# Altium footprint library MPPT_PCB_Library.PcbLib: 25 footprints (part 1 of 2)
Each footprint in its own frame and in the unit in brackets; x right, y up, seen from the top. Pads: shape width x height; smd on the part's side, far side on the other; paste and mask are expansions set on the pad; w line width, h text height; cw(c..) or ccw(c..) is an arc to the next point about the centre after c.
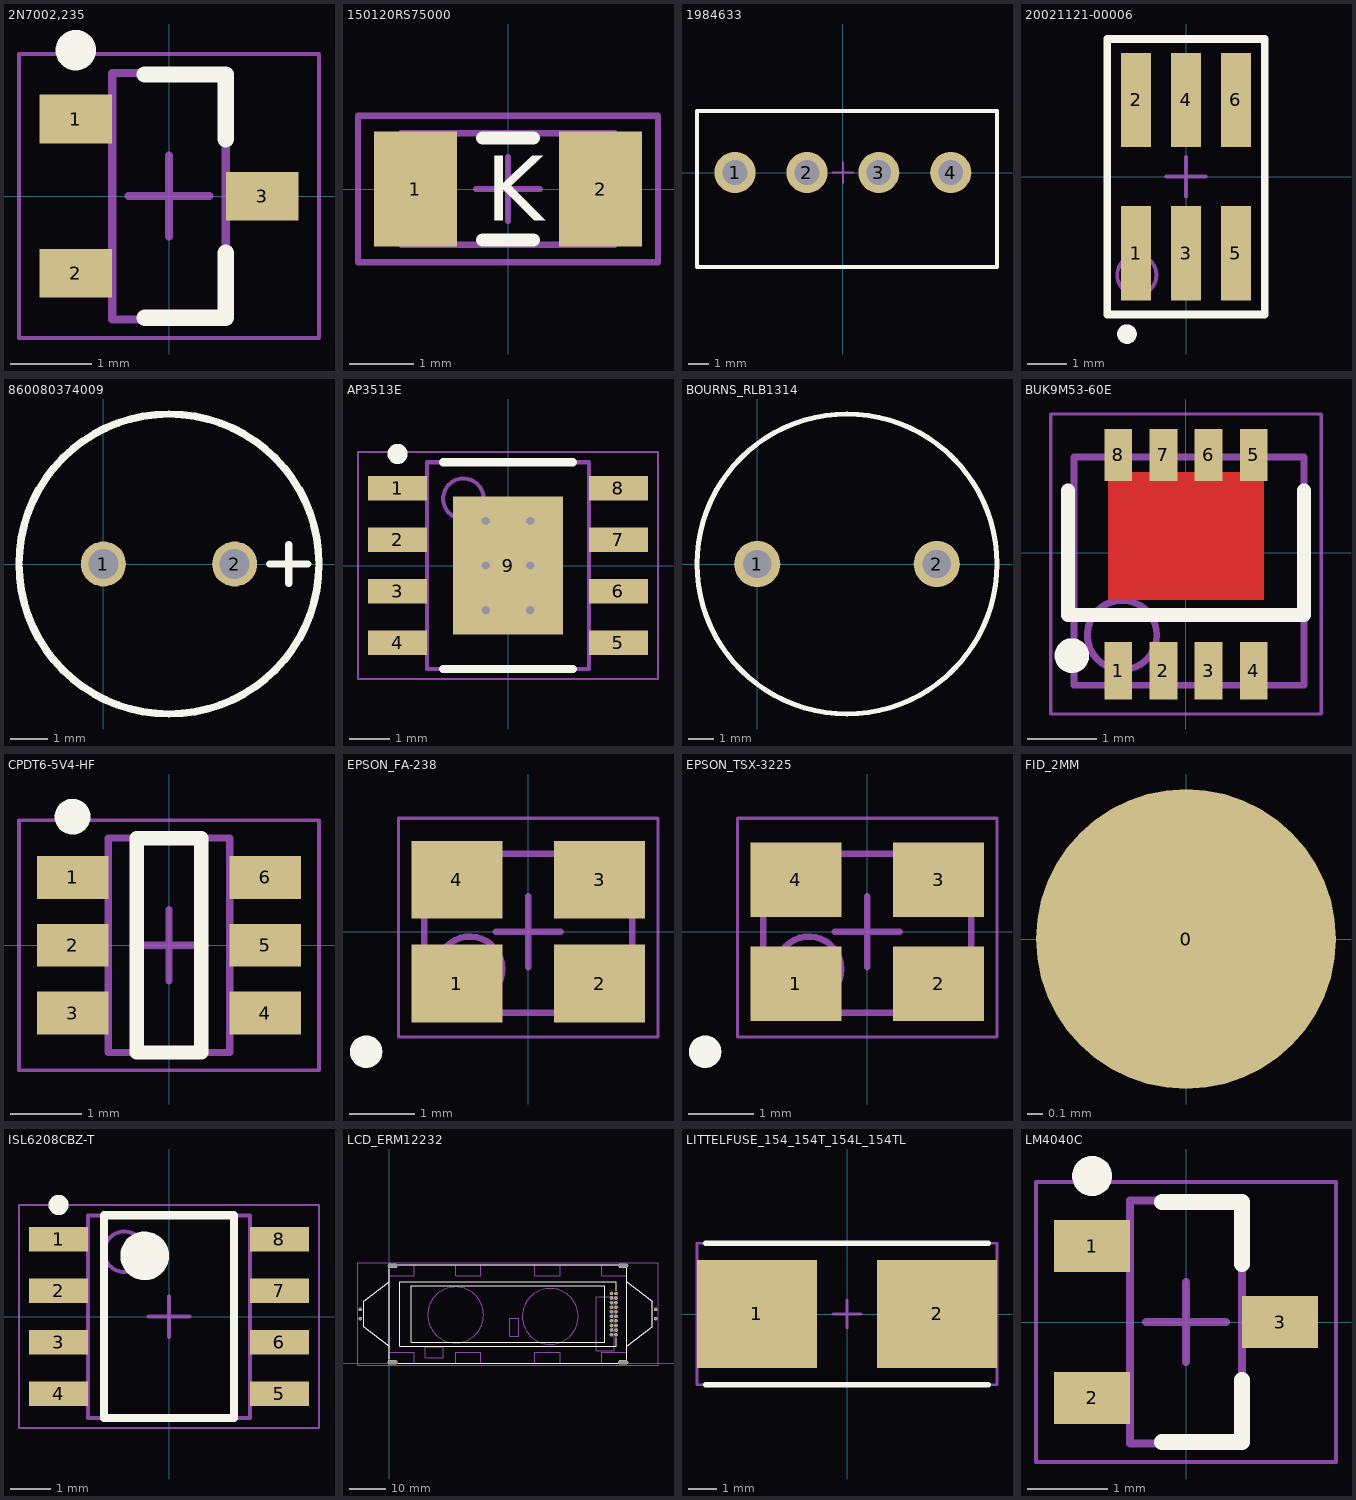
[diagram p0: the footprints below, top view; thin cyan lines are the x and y axes]

## 2N7002,235 [mm] "SOT-23"
height 1.15
pads (3):
  rect 0.9x0.6 smd: 1(-1.15,0.95) 2(-1.15,-0.95) 3(1.15,0)
Top Overlay:
  circle w0.25: c-1.15,1.8 r0.125
  lines w0.2: -0.3,-1.5 0.7,-1.5 0.7,-0.7 ; -0.3,1.5 0.7,1.5 0.7,0.7
Mechanical 13:
  lines w0.1: -0.7,-1.52 -0.7,1.52 0.7,1.52 0.7,-1.52 -0.7,-1.52
Mechanical 15:
  lines w0.05: -1.85,-1.75 -1.85,1.75 1.85,1.75 1.85,-1.75 -1.85,-1.75
  lines w0.1: -0.5,0 0.5,0 ; 0,-0.5 0,0.5
3D body "2N7002,235.step": height 1.15, standoff 0, extent -1.3,-1.52 1.3,1.52

## 150120RS75000 [mm] "LED 1206 Package"
height 1.1
pads (2):
  rect 1.3x1.8 smd: 1(-1.45,0) 2(1.45,0)
Top Overlay:
  lines w0.2: -0.4,-0.8 0.4,-0.8 ; -0.4,0.8 0.4,0.8
  text "K" at -0.35,-0.5 h1.02
Mechanical 13:
  lines w0.1: -1.675,-0.875 1.675,-0.875 1.675,0.875 -1.675,0.875 -1.675,-0.875
Mechanical 15:
  lines w0.1: -0.5,0 0.5,0 ; 0,-0.5 0,0.5 ; -2.35,-1.15 2.35,-1.15 2.35,1.15 -2.35,1.15 -2.35,-1.15
3D body "STEP-WL-SMCW-1206-rev1.stp": height 0.68, standoff 0, extent -1.6,-0.8 1.6,0.8

## 1984633 [mm] "Phoenix Contact PCB Screw Termination Block 4 position"
height 9.2
pads (4):
  round 2 hole 1.2: 1(-5.25,0) 2(-1.75,0) 3(1.75,0) 4(5.25,0)
Top Overlay:
  lines w0.2: -7.1,-4.6 -7.1,3 7.5,3 7.5,-4.6 -7.1,-4.6
Mechanical 13:
  lines w0.1: -7.1,-4.6 7.5,-4.6 7.5,3 -7.1,3 -7.1,-4.6
Mechanical 15:
  lines w0.05: -7.1,-4.6 7.5,-4.6 7.5,3 -7.1,3 -7.1,-4.6
  lines w0.1: -0.5,0 0.5,0 ; 0,-0.5 0,0.5
3D body "1984633_01.stp": height 9.05, standoff -4.45, extent -7.035,-4.6 7.535,3

## 20021121-00006 [mm] "2x3 Header 50 mil pitch"
height 5.5
pads (6):
  rect 0.76x2.4 smd: 1(-1.27,-1.95) 2(-1.27,1.95) 3(0,-1.95) 4(0,1.95) 5(1.27,-1.95) 6(1.27,1.95)
Top Overlay:
  circle w0.25: c-1.5,-4 r0.125
  lines w0.2: -2,-3.5 2,-3.5 2,3.5 -2,3.5 -2,-3.5
Mechanical 13:
  circle w0.1: c-1.25,-2.5 r0.5
  lines w0.1: -2,-3.5 2,-3.5 2,3.5 -2,3.5 -2,-3.5
Mechanical 15:
  lines w0.05: -2,-3.5 2,-3.5 2,3.5 -2,3.5 -2,-3.5
  lines w0.1: -0.5,0 0.5,0 ; 0,-0.5 0,0.5
3D body "20021121-00006XXLFc.stp": height 4.5, standoff 0, extent -1.885,-2.75 1.925,2.75

## 860080374009 [mm]
pads (2):
  round 1.2 hole 0.8: 1(0,0) 2(3.5,0)
Top Overlay:
  circle w0.2: c1.75,0 r4
  lines w0.2: 4.432,0 5.448,0 ; 4.94,-0.508 4.94,0.508
3D body: height 11.5, standoff 0, extent -2.25,-4.022 5.75,3.972

## AP3513E [mm] "SOIC-8"
height 1.55
pads (9):
  rect 1.45x0.6 smd: 1(-2.725,1.905) 2(-2.725,0.635) 3(-2.725,-0.635) 4(-2.725,-1.905) 5(2.725,-1.905) 6(2.725,-0.635) 7(2.725,0.635) 8(2.725,1.905)
  rect 2.71x3.4 smd: 9(0,0)
via -0.55,1.1 diameter 0.5 hole 0.2
via 0.55,1.1 diameter 0.5 hole 0.2
via -0.55,0 diameter 0.5 hole 0.2
via 0.55,0 diameter 0.5 hole 0.2
via -0.55,-1.1 diameter 0.5 hole 0.2
via 0.55,-1.1 diameter 0.5 hole 0.2
Top Overlay:
  circle w0.25: c-2.725,2.755 r0.125
  lines w0.2: -1.6,-2.55 1.6,-2.55 ; -1.6,2.55 1.6,2.55
Mechanical 13:
  circle w0.1: c-1.1,1.65 r0.5
  lines w0.1: -2,-2.55 -2,2.55 2,2.55 2,-2.55 -2,-2.55
Mechanical 15:
  lines w0.05: -3.7,-2.8 -3.7,2.8 3.7,2.8 3.7,-2.8 -3.7,-2.8
  lines w0.1: -0.5,0 0.5,0 ; 0,-0.5 0,0.5
3D body "AP3513E.step": height 1.55, standoff 0, extent -3,-2.55 3,2.55

## BOURNS_RLB1314 [mm] "Murata Radial TH inductor"
height 12
pads (2):
  round 1.8 hole 1.1: 1(0,0) 2(7,0)
Top Overlay:
  circle w0.2: c3.5,0 r5.85
3D body: height 12, standoff 0, extent -2.341,-5.804 9.359,5.896

## BUK9M53-60E [mm] "TSOP, 8-Leads, Body 3,30x2,60mm, Pitch 0,65mm, Thermal Pad 0,00x0,00mm, IPC Medium Density"
height 0.9
pads (8):
  rect 0.4x0.83 smd mask+0.05: 1(-0.975,-1.7) 2(-0.325,-1.7) 3(0.325,-1.7) 4(0.975,-1.7)
  rect 0.4x0.75 smd mask+0.05: 5(0.975,1.41) 6(0.325,1.41) 7(-0.325,1.41) 8(-0.975,1.41)
Top Layer:
  rectangle: -1.125,-0.685 1.125,1.165
Top Overlay:
  circle w0.25: c-1.645,-1.483 r0.125
  lines w0.2: -1.7,0.9 -1.7,-0.9 1.7,-0.9 1.7,0.9
Mechanical 13:
  circle w0.1: c-0.922,-1.187 r0.5
  lines w0.1: -1.615,-1.911 -1.615,1.379 1.7,1.379 1.7,-1.911 -1.615,-1.911
Mechanical 15:
  lines w0.05: -1.95,-2.325 -1.95,2 1.95,2 1.95,-2.325 -1.95,-2.325
  lines w0.1: -0.5,0 0.5,0 ; 0,-0.5 0,0.5
3D body "SOT1210.step": height 0.84, standoff -0.01, extent -1.637,-1.912 1.663,1.388

## CPDT6-5V4-HF [mm] "SOT23, 6-Leads, Body 2,90x2,80mm, Pitch 0,95mm, IPC Medium Density"
height 1.15
pads (6):
  rect 1x0.6 smd: 1(-1.35,0.95) 2(-1.35,0) 3(-1.35,-0.95) 4(1.35,-0.95) 5(1.35,0) 6(1.35,0.95)
Top Overlay:
  circle w0.25: c-1.35,1.8 r0.125
  lines w0.2: -0.45,-1.5 0.45,-1.5 0.45,1.5 -0.45,1.5 -0.45,-1.5
Mechanical 13:
  lines w0.1: -0.85,-1.5 -0.85,1.5 0.85,1.5 0.85,-1.5 -0.85,-1.5
Mechanical 15:
  lines w0.05: -2.1,-1.75 -2.1,1.75 2.1,1.75 2.1,-1.75 -2.1,-1.75
  lines w0.1: -0.5,0 0.5,0 ; 0,-0.5 0,0.5
3D body "CPDT6-5V4-HF.step": height 1.15, standoff 0, extent -1.475,-1.5 1.475,1.5

## EPSON_FA-238 [mm] "EPSON XTAL"
height 0.7
pads (4):
  rect 1.4x1.2 smd: 1(-1.1,-0.8) 2(1.1,-0.8) 3(1.1,0.8) 4(-1.1,0.8)
Top Overlay:
  circle w0.25: c-2.5,-1.85 r0.125
Mechanical 13:
  circle w0.1: c-0.9,-0.575 r0.5
  lines w0.1: -1.6,-1.25 -1.6,1.2 1.6,1.2 1.6,-1.25 -1.6,-1.25
Mechanical 15:
  lines w0.05: -2,-1.625 -2,1.75 2,1.75 2,-1.625 -2,-1.625
  lines w0.1: -0.5,0 0.5,0 ; 0,-0.55 0,0.55
3D body: height 0.7, standoff 0, extent -1.6,-1.25 1.6,1.25

## EPSON_TSX-3225 [mm] "EPSON XTAL"
height 0.6
pads (4):
  rect 1.4x1.15 smd: 1(-1.1,-0.8) 2(1.1,-0.8) 3(1.1,0.8) 4(-1.1,0.8)
Top Overlay:
  circle w0.25: c-2.5,-1.85 r0.125
Mechanical 13:
  circle w0.1: c-0.9,-0.575 r0.5
  lines w0.1: -1.6,-1.25 -1.6,1.2 1.6,1.2 1.6,-1.25 -1.6,-1.25
Mechanical 15:
  lines w0.05: -2,-1.625 -2,1.75 2,1.75 2,-1.625 -2,-1.625
  lines w0.1: -0.5,0 0.5,0 ; 0,-0.55 0,0.55
3D body: height 0.6, standoff 0, extent -1.6,-1.25 1.6,1.25

## FID_2MM [mm] "Fiducial, 2mm"
pads (1):
  round 2 smd paste+0 mask+1: 0(0,0)

## ISL6208CBZ-T [mm] "SOIC, 8-Leads, Body 4,90x3,90mm, Pitch 1,27mm, IPC Medium Density"
height 1.75
pads (8):
  rect 1.45x0.6 smd: 1(-2.725,1.905) 2(-2.725,0.635) 3(-2.725,-0.635) 4(-2.725,-1.905) 5(2.725,-1.905) 6(2.725,-0.635) 7(2.725,0.635) 8(2.725,1.905)
Top Overlay:
  circle w0.25: c-2.725,2.755 r0.125
  circle w0.6: c-0.6,1.5 r0.3
  lines w0.2: -1.6,-2.5 -1.6,2.5 1.6,2.5 1.6,-2.5 -1.6,-2.5
Mechanical 13:
  circle w0.1: c-1.1,1.6 r0.5
  lines w0.1: -2,-2.5 -2,2.5 2,2.5 2,-2.5 -2,-2.5
Mechanical 15:
  lines w0.05: -3.7,-2.75 -3.7,2.75 3.7,2.75 3.7,-2.75 -3.7,-2.75
  lines w0.1: -0.5,0 0.5,0 ; 0,-0.5 0,0.5
3D body "ISL6208CBZ-T.step": height 1.75, standoff 0, extent -3,-2.5 3,2.5

## LCD_ERM12232 [mm]
height 8.5
pads (28):
  round 1 hole 0.7: 1(63,19.355) 2(61.73,19.355) 3(63,18.085) 4(61.73,18.085) 5(63,16.815) 6(61.73,16.815) 7(63,15.545) 8(61.73,15.545) 9(63,14.275) 10(61.73,14.275) 11(63,13.005) 12(61.73,13.005) 13(63,11.735) 14(61.73,11.735) 15(63,10.465) 16(61.73,10.465) 17(63,9.195) 18(61.73,9.195) 19(63,7.925) 20(61.73,7.925) 21(-8,12.38) 22(-8,14.92) 23(74,14.92) 24(74,12.38)
  oval 2.8x1.3 hole 0.9 slot 2.4 at 0 deg: 25(1,0.25) 26(1,27.05) 27(65,0.25) 28(65,27.05)
Top Overlay:
  lines w0.05: 0,1.05 0,26.275 ; 0,4.65 -7,10.15 -7,17.15 0,22.65 ; 2.525,0 63.475,0 ; 2.525,27.3 63.45,27.3 ; 63,7 63,4.65 3,4.65 3,20.225 3,22.65 63,22.65 63,20.1 ; 66,1.025 66,26.3 ; 66,4.65 73,10.15 73,17.15 66,22.65 ; 6.175,5.825 59.825,5.825 59.825,21.475 6.175,21.475 6.175,5.825
Mechanical 1:
  circle w0.05: c18.475,13.4 r7.75
  circle w0.05: c44.75,12.975 r7.75
  lines w0.05: 0,0.5 2,0.5 2,0 ; 0,3 7,3 7,0 ; 0,4.65 -7,10.15 -7,17.15 0,22.65 ; 0,24.3 7,24.3 7,27.3 ; 0,26.8 2,26.8 2,27.3 ; 18.5,0 18.5,3 25.5,3 25.5,0 ; 18.5,27.3 18.5,24.3 25.5,24.3 25.5,27.3 ; 40.5,0 40.5,3 47.5,3 47.5,0 ; 40.5,27.3 40.5,24.3 47.5,24.3 47.5,27.3 ; 59,0 59,3 66,3 ; 59,27.3 59,24.3 66,24.3 ; 64,0 64,0.5 66,0.5 ; 64,27.3 64,26.8 66,26.8 ; 66,4.65 73,10.15 73,17.15 66,22.65 ; 0,0 0,27.3 66,27.3 66,0 0,0 ; 10,1.5 10,4.5 15,4.5 15,1.5 10,1.5 ; 33.5,7.5 36,7.5 36,12.5 33.5,12.5 33.5,7.5 ; 57.5,3.5 62.5,3.5 62.5,18.5 57.5,18.5 57.5,3.5
Mechanical 15:
  lines w0.05: -8.625,-0.6 74.65,-0.6 74.65,27.875 -8.625,27.875 -8.625,-0.6
3D body: height 5.5, standoff 2.5, extent 66,4.65 73,22.65
3D body: height 1.5, standoff 0, extent 36.95,5.253 52.45,20.747
3D body: height 1.5, standoff 0, extent 10.7,5.726 26.18,21.2
3D body: height 1.5, standoff 0.7, extent 57.5,3.5 62.5,18.5
3D body: height 1.5, standoff 0.7, extent 33.5,7.5 36,12.5
3D body: height 1.5, standoff 0.7, extent 10,1.5 15,4.5
3D body: height 1.5, standoff 0, extent 0,0 7,3
3D body: height 1.5, standoff 0, extent 18.5,0 25.5,3
3D body: height 1.5, standoff 0, extent 40.5,0 47.5,3
3D body: height 1.5, standoff 0, extent 59,0 66,3
3D body: height 1.5, standoff 0, extent 59,24.3 66,27.3
3D body: height 1.5, standoff 0, extent 40.5,24.3 47.5,27.3
3D body: height 1.5, standoff 0, extent 18.5,24.3 25.5,27.3
3D body: height 1.5, standoff 0, extent 0,24.3 7,27.3
3D body: height 1.5, standoff -3.5, extent 0,26.8 2,27.3
3D body: height 1.5, standoff -3.5, extent 64,26.8 66,27.3
3D body: height 1.5, standoff -3.5, extent 64,0 66,0.5
3D body: height 1.5, standoff -3.5, extent 0,0 2,0.5
3D body: height 8.5, standoff 1.5, extent 0,0 66,27.3
3D body: height 5.5, standoff 2.5, extent -7,4.65 0,22.65

## LITTELFUSE_154_154T_154L_154TL [mm] "LittelFuse Fuseholder 10A"
height 3.81
pads (2):
  rect 4.24x3.81 smd: 1(-3.185,0) 2(3.185,0)
Top Overlay:
  lines w0.2: -5,-2.5 5,-2.5 ; -5,2.5 5,2.5
Mechanical 13:
  lines w0.1: -5.3,-2.5 5.3,-2.5 5.3,2.5 -5.3,2.5 -5.3,-2.5
Mechanical 15:
  lines w0.05: -5.3,-2.5 5.3,-2.5 5.3,2.5 -5.3,2.5 -5.3,-2.5
  lines w0.1: -0.5,0 0.5,0 ; 0,-0.5 0,0.5
3D body: height 3.81, standoff 0, extent -5.3,-2.5 5.3,2.5

## LM4040C [mm] "SOT-23"
height 1.15
pads (3):
  rect 0.95x0.65 smd: 1(-1.175,0.95) 2(-1.175,-0.95) 3(1.175,0)
Top Overlay:
  circle w0.25: c-1.175,1.825 r0.125
  lines w0.2: -0.3,-1.5 0.7,-1.5 0.7,-0.725 ; -0.3,1.5 0.7,1.5 0.7,0.725
Mechanical 13:
  lines w0.1: -0.7,-1.52 0.7,-1.52 0.7,1.52 -0.7,1.52 -0.7,-1.52
Mechanical 15:
  lines w0.05: -1.875,-1.75 1.875,-1.75 1.875,1.75 -1.875,1.75 -1.875,-1.75
  lines w0.1: -0.5,0 0.5,0 ; 0,-0.5 0,0.5
3D body "LM4040C.step": height 1.15, standoff 0, extent -1.27,-1.52 1.27,1.52